# Altium footprint library L298N.PcbLib: 1 footprints
Each footprint in its own frame and in the unit in brackets; x right, y up, seen from the top. Pads: shape width x height; smd on the part's side, far side on the other; paste and mask are expansions set on the pad; w line width, h text height; cw(c..) or ccw(c..) is an arc to the next point about the centre after c.
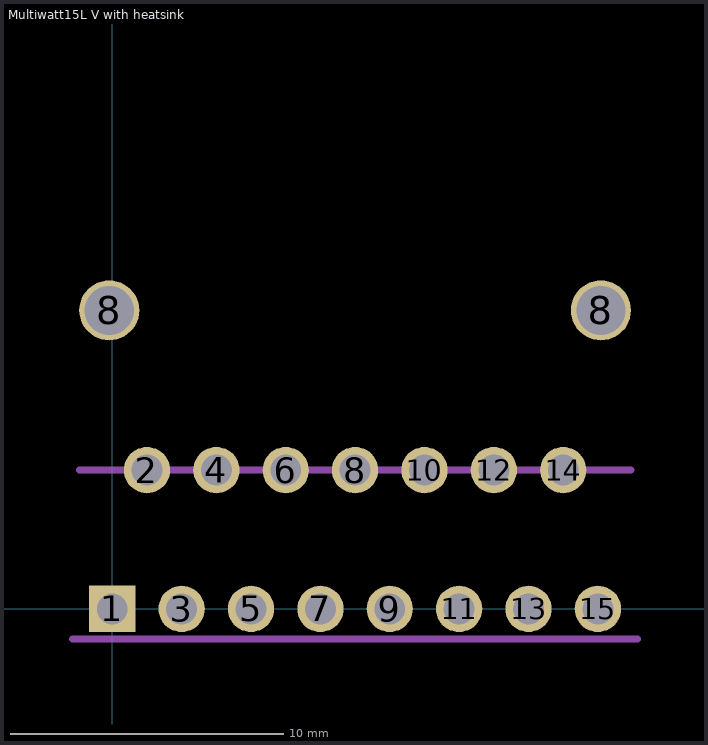
[diagram p0: the footprint, top view; thin cyan lines are the x and y axes]

## Multiwatt15L V with heatsink [mm]
pads (17):
  rect 1.695x1.695 hole 1.13: 1(0,0)
  round 1.695 hole 1.13: 2(1.27,5.08) 3(2.54,0) 4(3.81,5.08) 5(5.08,0) 6(6.35,5.08) 7(7.62,0) 8(8.89,5.08) 9(10.16,0) 10(11.43,5.08) 11(12.7,0) 12(13.97,5.08) 13(15.24,0) 14(16.51,5.08) 15(17.78,0)
  round 2.2 hole 1.8: 8(-0.11,10.93) 8(17.89,10.93)
Margin:
  lines w0.254: -2.8,2 -2.8,18.3 20.5,18.3 20.5,2 19.3,2 19.3,-1.1 -1.5,-1.1 -1.5,2 -2.8,2
F.SilkS:
  lines w0.254: -1.21,0 -1.21,9.63 ; -1.2,5.08 -0.2,5.08 ; -0.91,8.03 18.69,8.03 ; -0.91,9.63 18.69,9.63 ; 18,5.1 19,5.1 19,9.6 ; -1.21,9.63 -1.61,9.63 -1.61,2.23 -2.61,2.23 -2.61,18.23 20.39,18.23 20.39,2.23 19.39,2.23 19.39,9.63 18.99,9.63 -1.21,9.63
F.Fab:
  lines w0.254: -1.21,5.08 18.99,5.08
  text "'.Designator'" at -1.826,-10.406 h1.27
F.CrtYd:
  lines w0.254: -1.46,-1.098 19.24,-1.098